# EAGLE library part 1X8 (library SM-PinHeader)
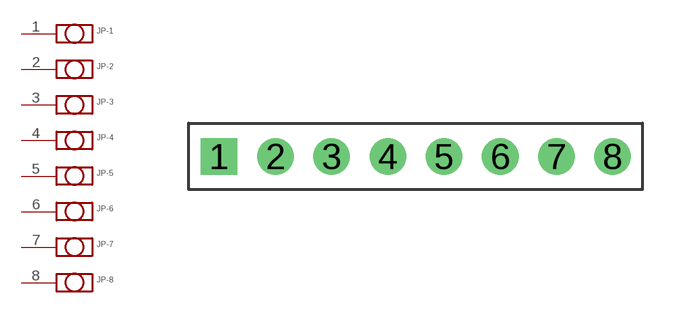
[diagram p0: symbol with the pads of 1X8; footprint 1X8]

Designator prefix JP; gates -1=PIN -2=PIN -3=PIN -4=PIN -5=PIN -6=PIN -7=PIN -8=PIN

## 1X8  [1X8]
1  -1:P$1
2  -2:P$1
3  -3:P$1
4  -4:P$1
5  -5:P$1
6  -6:P$1
7  -7:P$1
8  -8:P$1

## Footprint 1X8 (pad centres in mm)
drill 1.1 square: 1 -9.12,0
drill 1.1: 2 -6.58,0; 3 -4.04,0; 4 -1.5,0; 5 1.04,0; 6 3.58,0; 7 6.12,0; 8 8.66,0